# EAGLE library part RCLAMP0502A (library SemtechRCLAMP)
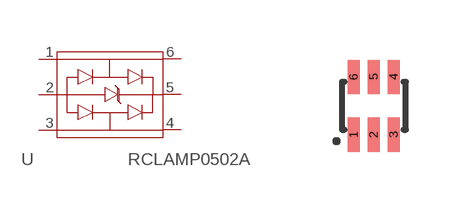
[diagram p0: symbol with the pads of SC-89; footprint SC-89]

Designator prefix -

## RCLAMP0502A  [SC-89]
1  P$1
2  P$2
3  P$3
4  P$4
5  P$5
6  P$6

## Footprint SC-89 (pad centres in mm)
smd 0.3 x 0.85: 1 -0.5,-0.725; 2 0,-0.725; 3 0.5,-0.725; 4 0.5,0.725; 5 0,0.725; 6 -0.5,0.725